# EAGLE library part STM32F103 (library GimbalStabilizer)
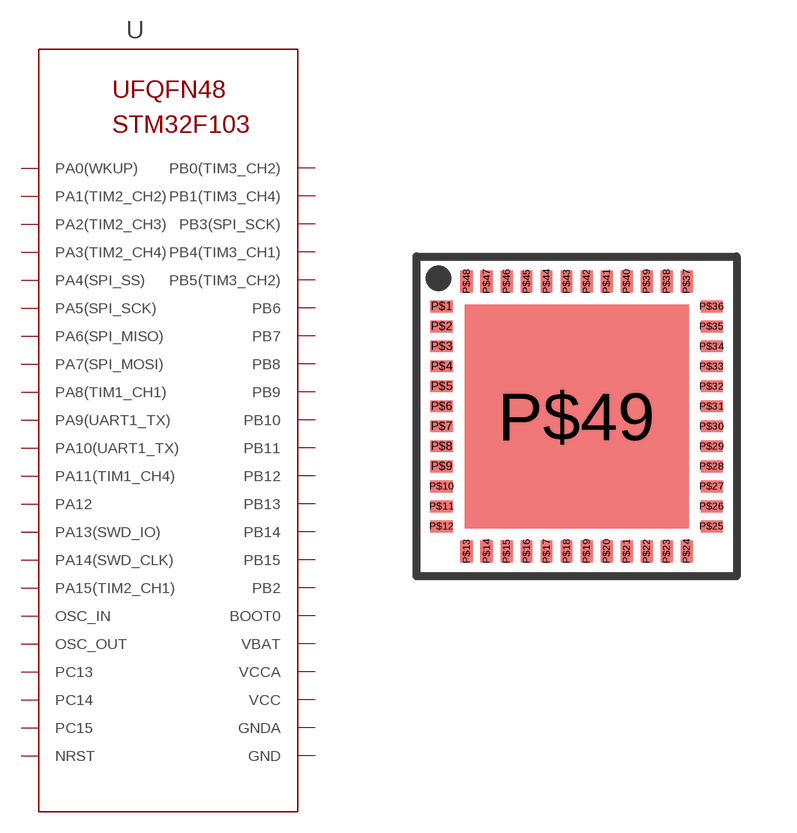
[diagram p2: symbol with the pads of UFQFN48; footprint UFQFN48]

Designator prefix U

## STM32F103C8U6  [UFQFN48]
P$1  VBAT  pwr
P$2  PC13
P$3  PC14
P$4  PC15
P$5  OSC_IN  pas
P$6  OSC_OUT  pas
P$7  NRST
P$8  GNDA  pwr
P$9  VCCA  pwr
P$10  PA0(WKUP)
P$11  PA1(TIM2_CH2)
P$12  PA2(TIM2_CH3)
P$13  PA3(TIM2_CH4)
P$14  PA4(SPI_SS)
P$15  PA5(SPI_SCK)
P$16  PA6(SPI_MISO)
P$17  PA7(SPI_MOSI)
P$18  PB0(TIM3_CH2)
P$19  PB1(TIM3_CH4)
P$20  PB2
P$21  PB10
P$22  PB11
P$23  GND  pwr
P$24  VCC  pwr
P$25  PB12
P$26  PB13
P$27  PB14
P$28  PB15
P$29  PA8(TIM1_CH1)
P$30  PA9(UART1_TX)
P$31  PA10(UART1_TX)
P$32  PA11(TIM1_CH4)
P$33  PA12
P$34  PA13(SWD_IO)
P$35  GND  pwr
P$36  VCC  pwr
P$37  PA14(SWD_CLK)
P$38  PA15(TIM2_CH1)
P$39  PB3(SPI_SCK)
P$40  PB4(TIM3_CH1)
P$41  PB5(TIM3_CH2)
P$42  PB6
P$43  PB7
P$44  BOOT0
P$45  PB8
P$46  PB9
P$47  GND  pwr
P$48  VCC  pwr
P$49  GND  pwr

## Footprint UFQFN48 (pad centres in mm)
smd 0.55 x 0.3: P$1 -1.675,2.55; P$2 -1.675,2.05; P$3 -1.675,1.55; P$4 -1.675,1.05; P$5 -1.675,0.55; P$6 -1.675,0.05; P$7 -1.675,-0.45; P$8 -1.675,-0.95; P$9 -1.675,-1.45; P$10 -1.675,-1.95; P$11 -1.675,-2.45; P$12 -1.675,-2.95; P$25 5.075,-2.95; P$26 5.075,-2.45; P$27 5.075,-1.95; P$28 5.075,-1.45; P$29 5.075,-0.95; P$30 5.075,-0.45; P$31 5.075,0.05; P$32 5.075,0.55; P$33 5.075,1.05; P$34 5.075,1.55; P$35 5.075,2.05; P$36 5.075,2.55
smd 0.3 x 0.55: P$13 -1.05,-3.575; P$14 -0.55,-3.575; P$15 -0.05,-3.575; P$16 0.45,-3.575; P$17 0.95,-3.575; P$18 1.45,-3.575; P$19 1.95,-3.575; P$20 2.45,-3.575; P$21 2.95,-3.575; P$22 3.45,-3.575; P$23 3.95,-3.575; P$24 4.45,-3.575; P$37 4.45,3.175; P$38 3.95,3.175; P$39 3.45,3.175; P$40 2.95,3.175; P$41 2.45,3.175; P$42 1.95,3.175; P$43 1.45,3.175; P$44 0.95,3.175; P$45 0.45,3.175; P$46 -0.05,3.175; P$47 -0.55,3.175; P$48 -1.05,3.175
smd 5.6 x 5.6: P$49 1.7,-0.2